# EAGLE library part MOLEX_M (library ConV4)
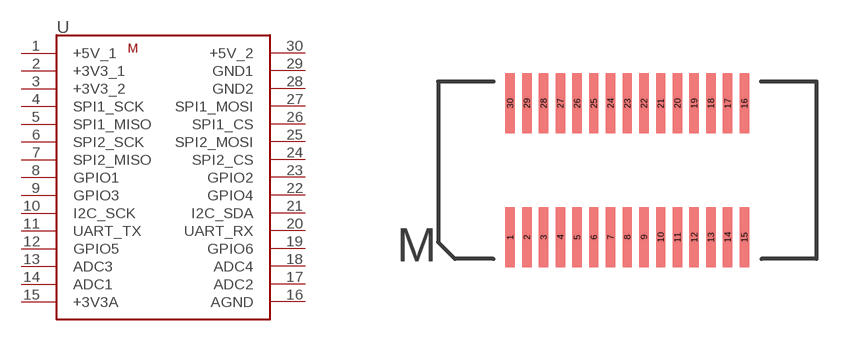
[diagram p2: symbol with the pads of MOLEX_M; footprint MOLEX_M]

Designator prefix -

## MOLEX_M  [MOLEX_M]
1  +5V_1
2  +3V3_1
3  +3V3_2
4  SPI1_SCK
5  SPI1_MISO
6  SPI2_SCK
7  SPI2_MISO
8  GPIO1
9  GPIO3
10  I2C_SCK
11  UART_TX
12  GPIO5
13  ADC3
14  ADC1
15  +3V3A
16  AGND
17  ADC2
18  ADC4
19  GPIO6
20  UART_RX
21  I2C_SDA
22  GPIO4
23  GPIO2
24  SPI2_CS
25  SPI2_MOSI
26  SPI1_CS
27  SPI1_MOSI
28  GND2
29  GND1
30  +5V_2

## Footprint MOLEX_M (pad centres in mm)
smd 0.28 x 1.8: 1 0,-2; 2 0.5,-2; 3 1,-2; 4 1.5,-2; 5 2,-2; 6 2.5,-2; 7 3,-2; 8 3.5,-2; 9 4,-2; 10 4.5,-2; 11 5,-2; 12 5.5,-2; 13 6,-2; 14 6.5,-2; 15 7,-2; 16 7,2; 17 6.5,2; 18 6,2; 19 5.5,2; 20 5,2; 21 4.5,2; 22 4,2; 23 3.5,2; 24 3,2; 25 2.5,2; 26 2,2; 27 1.5,2; 28 1,2; 29 0.5,2; 30 0,2